# Altium footprint library ECEN403_PCB.PcbLib: 7 footprints
Each footprint in its own frame and in the unit in brackets; x right, y up, seen from the top. Pads: shape width x height; smd on the part's side, far side on the other; paste and mask are expansions set on the pad; w line width, h text height; cw(c..) or ccw(c..) is an arc to the next point about the centre after c.
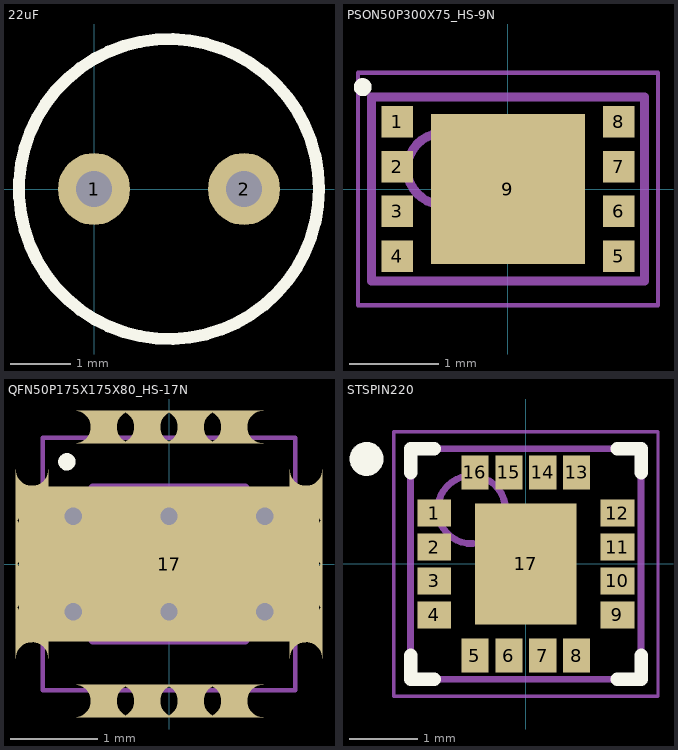
[diagram p0: the footprints below, top view; thin cyan lines are the x and y axes]

## 1.5nF [mm]

## 22uF [mm]
pads (2):
  round 1.2 hole 0.6: 1(0,0) 2(2.5,0)
Top Overlay:
  circle w0.2: c1.25,0 r2.5

## DFN65P100X45-4N [mm] "DFN, 4-Leads, Body 0.60x1.00mm, Pitch 0.65mm, IPC Medium Density"
height 0.45

## PSON50P250X100-8N [mm] "PSON, 8-Leads, Body 3.50x2.50mm, Pitch 0.50mm, IPC Medium Density"
height 1

## PSON50P300X75_HS-9N [mm] "PSON, 8-Leads, Body 2.03x3.03mm, Pitch 0.50mm, Thermal Pad 1.67x1.72mm, IPC Medium Density"
height 0.75
pads (9):
  rect 0.35x0.35 smd: 1(-1.235,0.75) 2(-1.235,0.25) 3(-1.235,-0.25) 4(-1.235,-0.75) 5(1.235,-0.75) 6(1.235,-0.25) 7(1.235,0.25) 8(1.235,0.75)
  rect 1.72x1.67 smd: 9(0,0)
Top Overlay:
  circle w0.1: c-1.622,1.137 r0.05
Top Courtyard:
  lines w0.05: -1.675,-1.3 -1.675,1.3 1.675,1.3 1.675,-1.3 -1.675,-1.3
  lines w0.1: -0.5,0 0.5,0 ; 0,-0.5 0,0.5
Top Assembly:
  circle w0.1: c-0.725,0.225 r0.4
  lines w0.1: -1.525,-1.025 -1.525,1.025 1.525,1.025 1.525,-1.025 -1.525,-1.025

## QFN50P175X175X80_HS-17N [mm] "QFN, 16-Leads, Body 1.75x1.75mm, Pitch 0.50mm, Thermal Pad 3.45x1.78mm, IPC Medium Density"
height 0.8
pads (17):
  oval 0x0.3 smd: 1(-1.575,0.75) 2(-1.575,0.25) 3(-1.575,-0.25) 4(-1.575,-0.75) 9(1.575,-0.75) 10(1.575,-0.25) 11(1.575,0.25) 12(1.575,0.75)
  oval 0.3x0 smd: 5(-0.75,-1.575) 6(-0.25,-1.575) 7(0.25,-1.575) 8(0.75,-1.575) 13(0.75,1.575) 14(0.25,1.575) 15(-0.25,1.575) 16(-0.75,1.575)
  rect 3.45x1.78 smd: 17(0,0)
via 1.1,-0.55 diameter 0.5 hole 0.2
via 0,-0.55 diameter 0.5 hole 0.2
via -1.1,-0.55 diameter 0.5 hole 0.2
via 1.1,0.55 diameter 0.5 hole 0.2
via 0,0.55 diameter 0.5 hole 0.2
via -1.1,0.55 diameter 0.5 hole 0.2
Top Overlay:
  circle w0.1: c-1.175,1.175 r0.05
Mechanical 13:
  lines w0.1: -0.875,-0.875 0.875,-0.875 0.875,0.875 -0.875,0.875 -0.875,-0.875
Mechanical 15:
  lines w0.05: -1.45,-1.45 1.45,-1.45 1.45,1.45 -1.45,1.45 -1.45,-1.45
  lines w0.1: -0.5,0 0.5,0 ; 0,-0.5 0,0.5
3D body: height 0.8, standoff 0.02, extent -0.875,-0.875 0.875,0.875

## STSPIN220 [mm] "PWM Low Voltage Stepper Motor Driver"
height 1
pads (17):
  rect 0.5x0.4 smd: 1(-1.35,0.75) 2(-1.35,0.25) 3(-1.35,-0.25) 4(-1.35,-0.75) 9(1.35,-0.75) 10(1.35,-0.25) 11(1.35,0.25) 12(1.35,0.75)
  rect 0.4x0.5 smd: 5(-0.75,-1.35) 6(-0.25,-1.35) 7(0.25,-1.35) 8(0.75,-1.35) 13(0.75,1.35) 14(0.25,1.35) 15(-0.25,1.35) 16(-0.75,1.35)
  rect 1.5x1.78 smd: 17(0,0)
Top Overlay:
  circle w0.25: c-2.35,1.55 r0.125
  lines w0.2: -1.7,-1.35 -1.7,-1.7 -1.35,-1.7 ; -1.7,1.35 -1.7,1.7 -1.35,1.7 ; 1.35,-1.7 1.7,-1.7 1.7,-1.35 ; 1.35,1.7 1.7,1.7 1.7,1.35
Mechanical 13:
  circle w0.1: c-0.8,0.8 r0.5
  lines w0.1: -1.7,-1.7 1.7,-1.7 1.7,1.7 -1.7,1.7 -1.7,-1.7
Mechanical 15:
  lines w0.05: -1.95,-1.95 1.95,-1.95 1.95,1.95 -1.95,1.95 -1.95,-1.95
  lines w0.1: -0.5,0 0.5,0 ; 0,-0.5 0,0.5
3D body: height 1, standoff 0.05, extent -1.876,-1.7 1.524,1.7